# Altium schematic symbol library Schlib_NEC.SchLib: 4 symbols
Pins are listed as number, name and electrical type; pins without a type are passive.

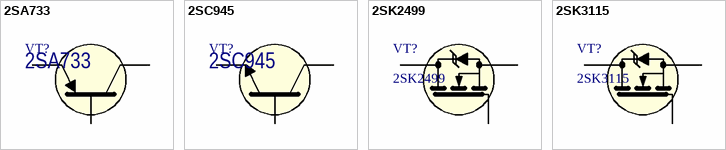
[diagram p0: symbols 2SA733 to 2SK3115]

## 2SA733
designator VT?
General Purpose p-n-p Transistors; Manufacturer: NEC; Package: TO-92; Part Number: 2SA733
footprint TO-92 (VERTICAL,LINE)
footprint TO-92 (VERTICAL,TRIANGLE)
pins: 1 B, 2 C, 3 E

## 2SC945
designator VT?
General Purpose n-p-n Transistors; Manufacturer: NEC; Package: TO-92; Part Number: 2SC945
footprint TO-92 (VERTICAL,LINE)
footprint TO-92 (VERTICAL,TRIANGLE)
pins: 1 B, 2 C, 3 E

## 2SK2499
designator VT?
N-Channel MOSFET, 60V, 50A; Manufacturer: NEC; Part Number: 2SK2499; Package: TO220-3
footprint TO-220AB-3
footprint TO-220AB-3 (HORIZONTAL)
pins: 1 G, 2 D, 3 S

## 2SK3115
designator VT?
600V @ 6A N-Channel MOSFET Rds=1.2Ohm @ 3A, 10V; Manufacturer: NEC; Part Number: 2SK3115; Package: TO-220F-3
footprint TO-220F
pins: 1 G, 2 D, 3 S